# Altium footprint library BHK_PCB_Public.PcbLib: 8 footprints
Each footprint in its own frame and in the unit in brackets; x right, y up, seen from the top. Pads: shape width x height; smd on the part's side, far side on the other; paste and mask are expansions set on the pad; w line width, h text height; cw(c..) or ccw(c..) is an arc to the next point about the centre after c.
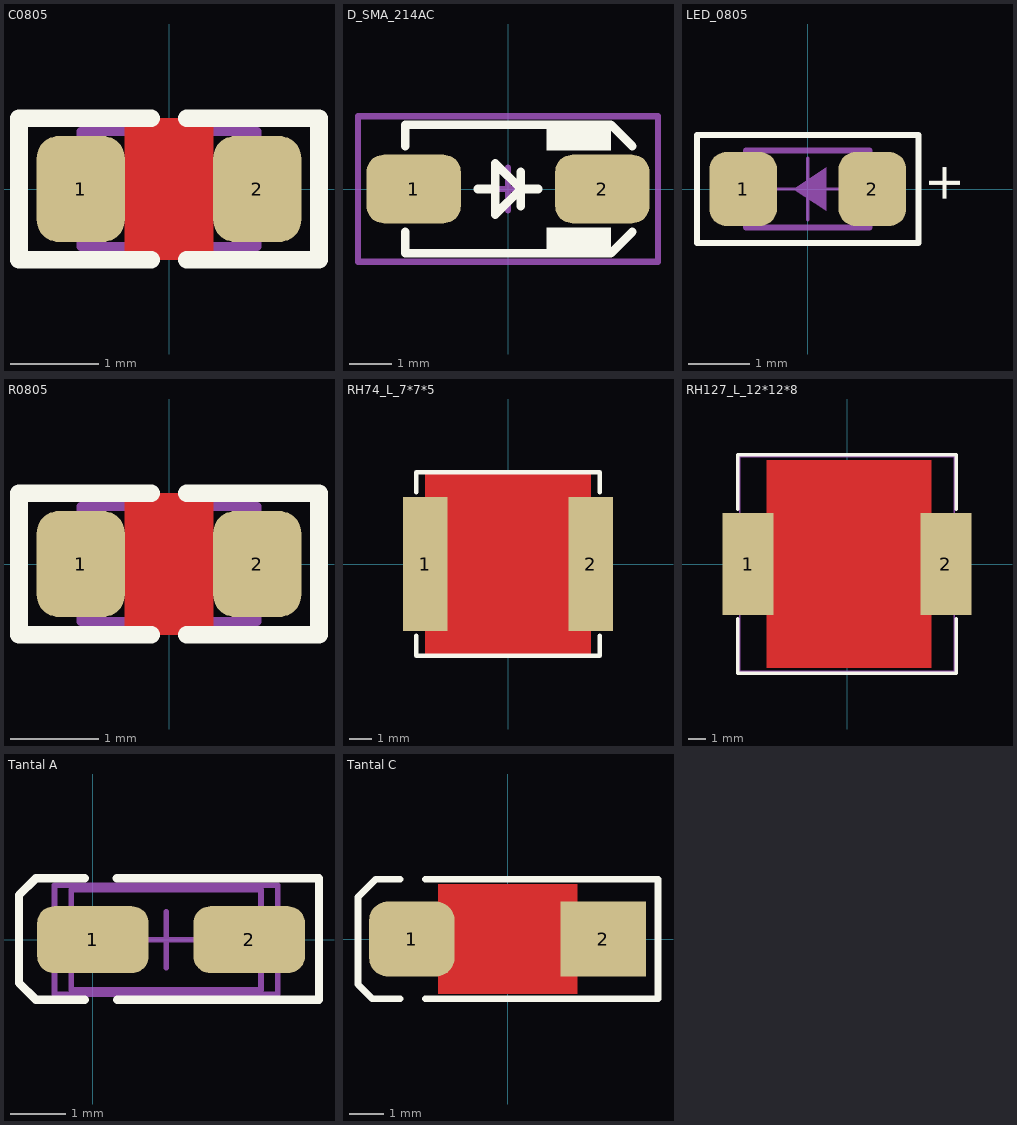
[diagram p0: the footprints below, top view; thin cyan lines are the x and y axes]

## C0805 [mm] "CHIP Capacitor, 2.0X1.3mm, 0805"
pads (2):
  rrect50% 1x1.2 smd mask+0.075: 1(-1,0) 2(1,0)
Top Layer:
  pour cut-out: -0.5,0.8 0.5,0.8 0.5,-0.8 -0.5,-0.8
Top Overlay:
  lines w0.2: -0.2,-0.8 -1.7,-0.8 -1.7,0.8 -0.2,0.8 ; 0.2,-0.8 1.7,-0.8 1.7,0.8 0.2,0.8
Mechanical 13:
  lines w0.1: -1,-0.65 1,-0.65 1,0.65 -1,0.65 -1,-0.65
3D body "cap 0805.STEP": height 0.65, standoff 0, extent -1.016,-0.635 1.016,0.635

## D_SMA_214AC [mm] "SMA Molded Diode, 2-Leads, Body 4.3x2.7mm"
height 2.4
pads (2):
  rrect50% 2.2x1.6 smd: 1(-2.2,0) 2(2.2,0)
Top Overlay:
  rectangle: 0.9,0.9 2.4,1.5
  rectangle: 0.9,-1.5 2.4,-0.9
  lines w0.2: -2.4,-1 -2.4,-1.5 2.4,-1.5 2.9,-1 ; -2.4,1 -2.4,1.5 2.4,1.5 2.9,1 ; -0.7,0 -0.3,0 ; 0.3,-0.4 0.3,0.4 ; 0.7,0 0.3,0 ; 0.3,0 -0.3,-0.6 -0.3,0.6 0.3,0
Mechanical 15:
  lines w0.15: -0.5,0 0.5,0 ; 0,-0.5 0,0.5 ; -3.5,-1.7 -3.5,1.7 3.5,1.7 3.5,-1.7 -3.5,-1.7
3D body "User Library-DIOM5528X26.step": height 2.6, standoff 0.03, extent -2.7,-1.4 2.8,1.4

## LED_0805 [mm] "SMD Mono-color Chip LED, body 2.0x1.25mm"
height 0.8
pads (2):
  rrect50% 1.1x1.2 smd: 1(-1.05,0) 2(1.05,0)
Top Overlay:
  lines w0.1: -1.8,-0.875 -1.8,0.875 1.8,0.875 1.8,-0.875 -1.8,-0.875
  text "+" at 2.475,-0.25 h0.6
Mechanical 13:
  region: -0.233,0 0.3,-0.35 0.3,0.35
  lines w0.1: -1,-0.625 1,-0.625 1,0.625 -1,0.625 -1,-0.625
Mechanical 15:
  lines w0.05: -0.5,0 0.5,0 ; 0,-0.5 0,0.5
3D body "150080xS75000.stp": height 0.7, standoff 0, extent -1,-0.625 1,0.625

## R0805 [mm] "CHIP RESISTOR 1/8 WATT ,2.0X1.3mm, 0805, 2012"
pads (2):
  rrect50% 1x1.2 smd mask+0.05: 1(-1,0) 2(1,0)
Top Layer:
  pour cut-out: -0.5,0.8 0.5,0.8 0.5,-0.8 -0.5,-0.8
Top Overlay:
  lines w0.2: -0.2,-0.8 -1.7,-0.8 -1.7,0.8 -0.2,0.8 ; 0.2,-0.8 1.7,-0.8 1.7,0.8 0.2,0.8
Mechanical 13:
  lines w0.1: -1,-0.65 -1,0.65 1,0.65 1,-0.65 -1,-0.65
3D body "0805.STEP": height 0.6, standoff 0, extent -1.016,-0.635 1.016,0.635

## RH74_L_7*7*5 [mm] "INDUCTOR, 7.5X7.5mm, 8x8, DR74"
height 4.5
pads (2):
  rect 2x6 smd: 1(-3.7,0) 2(3.7,0)
Top Layer:
  pour cut-out: -3.7,4.1 -3.7,-4.1 3.7,-4.1 3.7,4.1
Top Overlay:
  lines w0.2: -4.1,-3.2 -4.1,-4.1 4.1,-4.1 4.1,-3.2 ; -4.1,3.2 -4.1,4.1 4.1,4.1 4.1,3.2
3D body "Cooper Bussman DR73 Series Inductor.STEP": height 3.55, standoff 0, extent -3.8,-3.8 3.8,3.8

## RH127_L_12*12*8 [mm] "INDUCTOR, 13.5x12.5mm, DR125, CDRH127, D128C 931AS"
height 7
pads (2):
  rect 3x6 smd: 1(-5.8,0) 2(5.8,0)
Top Layer:
  pour cut-out: -4.699,6.096 4.953,6.096 4.953,-6.096 -4.699,-6.096
Top Overlay:
  lines w0.2: -6.4,-3.2 -6.4,-6.4 6.4,-6.4 6.4,-3.2 ; -6.4,3.2 -6.4,6.4 6.4,6.4 6.4,3.2
Mechanical 13:
  lines w0.1: -6.3,-6.3 6.3,-6.3 6.3,6.3 -6.3,6.3 -6.3,-6.3
3D body "User Library-D128C.step": height 8.16, standoff 0, extent -6.158,-6.15 6.158,6.15

## Tantal A [mm] "Chip Capacitor, 2-Leads, Body 3.2x1.6mm, IPC High Density, chip Tantalum"
height 1.8
pads (2):
  rrect50% 1.999x1.199 smd: 1(0,0) 2(2.8,0)
Top Overlay:
  lines w0.15: -0.15,-1.075 -1.025,-1.075 -1.325,-0.775 -1.325,0.8 -1.025,1.1 -0.15,1.1 ; 0.425,1.1 1.05,1.1 3.6,1.1 4.05,1.1 4.05,-1.075 3.6,-1.075 1.061,-1.075 0.436,-1.075
Mechanical 13:
  lines w0.1: -0.389,-0.9 -0.389,0.9 3.011,0.9 3.011,-0.9 -0.389,-0.9
Mechanical 15:
  lines w0.1: 0.811,0 1.811,0 ; 1.311,-0.5 1.311,0.5 ; -0.689,-0.975 3.311,-0.975 3.311,0.975 -0.689,0.975 -0.689,-0.975
3D body "SW3dPS-Solid Tantalum Chip Capacitor Size (A-3216-18).STEP": height 1.8, standoff 0, extent -0.429,-0.902 3.21,0.902

## Tantal C [mm] "CAPACITOR, TAN C, TAN F, TAN U, TAN L, 6032P, 6.0X3.2mm"
height 2.8
pads (2):
  rrect50% 2.5x2.2 smd: 1(-2.8,0)
  rect 2.5x2.2 smd: 2(2.8,0)
Top Layer:
  pour cut-out: -2.032,1.6 2.032,1.6 2.032,-1.6 -2.032,-1.6
Top Overlay:
  lines w0.2: -3.15,-1.75 -3.95,-1.75 -4.375,-1.325 -4.375,1.225 -3.85,1.75 -3.15,1.75 ; -2.4,-1.75 4.4,-1.75 4.4,1.75 -2.4,1.75
3D body "User Library-CAP_TANT_6032-28_y.step": height 2.8, standoff 0, extent -3.15,-1.75 3.15,1.75